# Altium footprint library LM2596 Mod.PcbLib: 1 footprints
Each footprint in its own frame and in the unit in brackets; x right, y up, seen from the top. Pads: shape width x height; smd on the part's side, far side on the other; paste and mask are expansions set on the pad; w line width, h text height; cw(c..) or ccw(c..) is an arc to the next point about the centre after c.
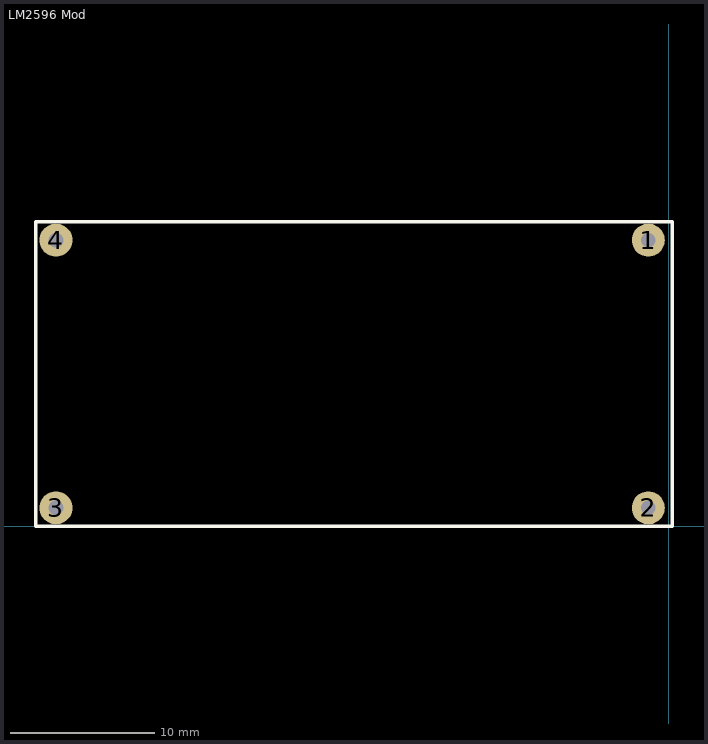
[diagram p0: the footprint, top view; thin cyan lines are the x and y axes]

## LM2596 Mod [mil]
pads (4):
  round 90 hole 40: 1(-55,780) 2(-55,50) 3(-1670,50) 4(-1670,780)
Top Overlay:
  lines w10: -1725,0 10,0 10,830 -1725,830 -1725,0
3D body "LM2596.STEP": height 569.89, standoff -339.56, extent -1724.77,5.78 7.51,832.56